# EAGLE library part LMZ14203H (library CCupPSU)
LMZ14203H 3A SIMPLE SWITCHER® Power Module with 42V Maximum Input
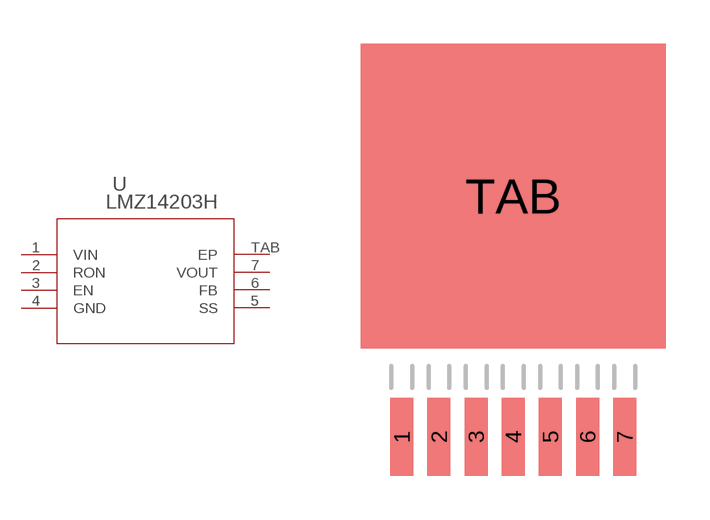
[diagram p0: symbol with the pads of TZA07A; footprint TZA07A]

Designator prefix U

## LMZ14203H (BASEPN: LMZ14203; DATASHEETURL: http://www.ti.com/lit/ds/symlink/lmz14203h.pdf; DESCRIPTION: 3A SIMPLE SWITCHER® Power Module with 42V Maximum Input; MANUFACTURER: Texas Instruments; MANUFACTURER_PART_NUMBER: lmz14203h_ndw_7; NSC_PACKAGEREFERENCE: TZA07A; VENDOR: Texas Instruments)  [TZA07A]
1  VIN  in
2  RON  pas
3  EN  in
4  GND  pwr
5  SS  pas
6  FB  out
7  VOUT  pwr
TAB  EP  pas

## Footprint TZA07A (pad centres in mm)
smd 0.787 x 2.667: 1 -3.81,-8.077; 2 -2.54,-8.077; 3 -1.27,-8.077; 4 0,-8.077; 5 1.27,-8.077; 6 2.54,-8.077; 7 3.81,-8.077
smd 10.414 x 10.414: TAB 0,0.152